# Altium schematic symbol library 28377一体板.SCHLIB: 54 symbols
Pins are listed as number, name and electrical type; pins without a type are passive.

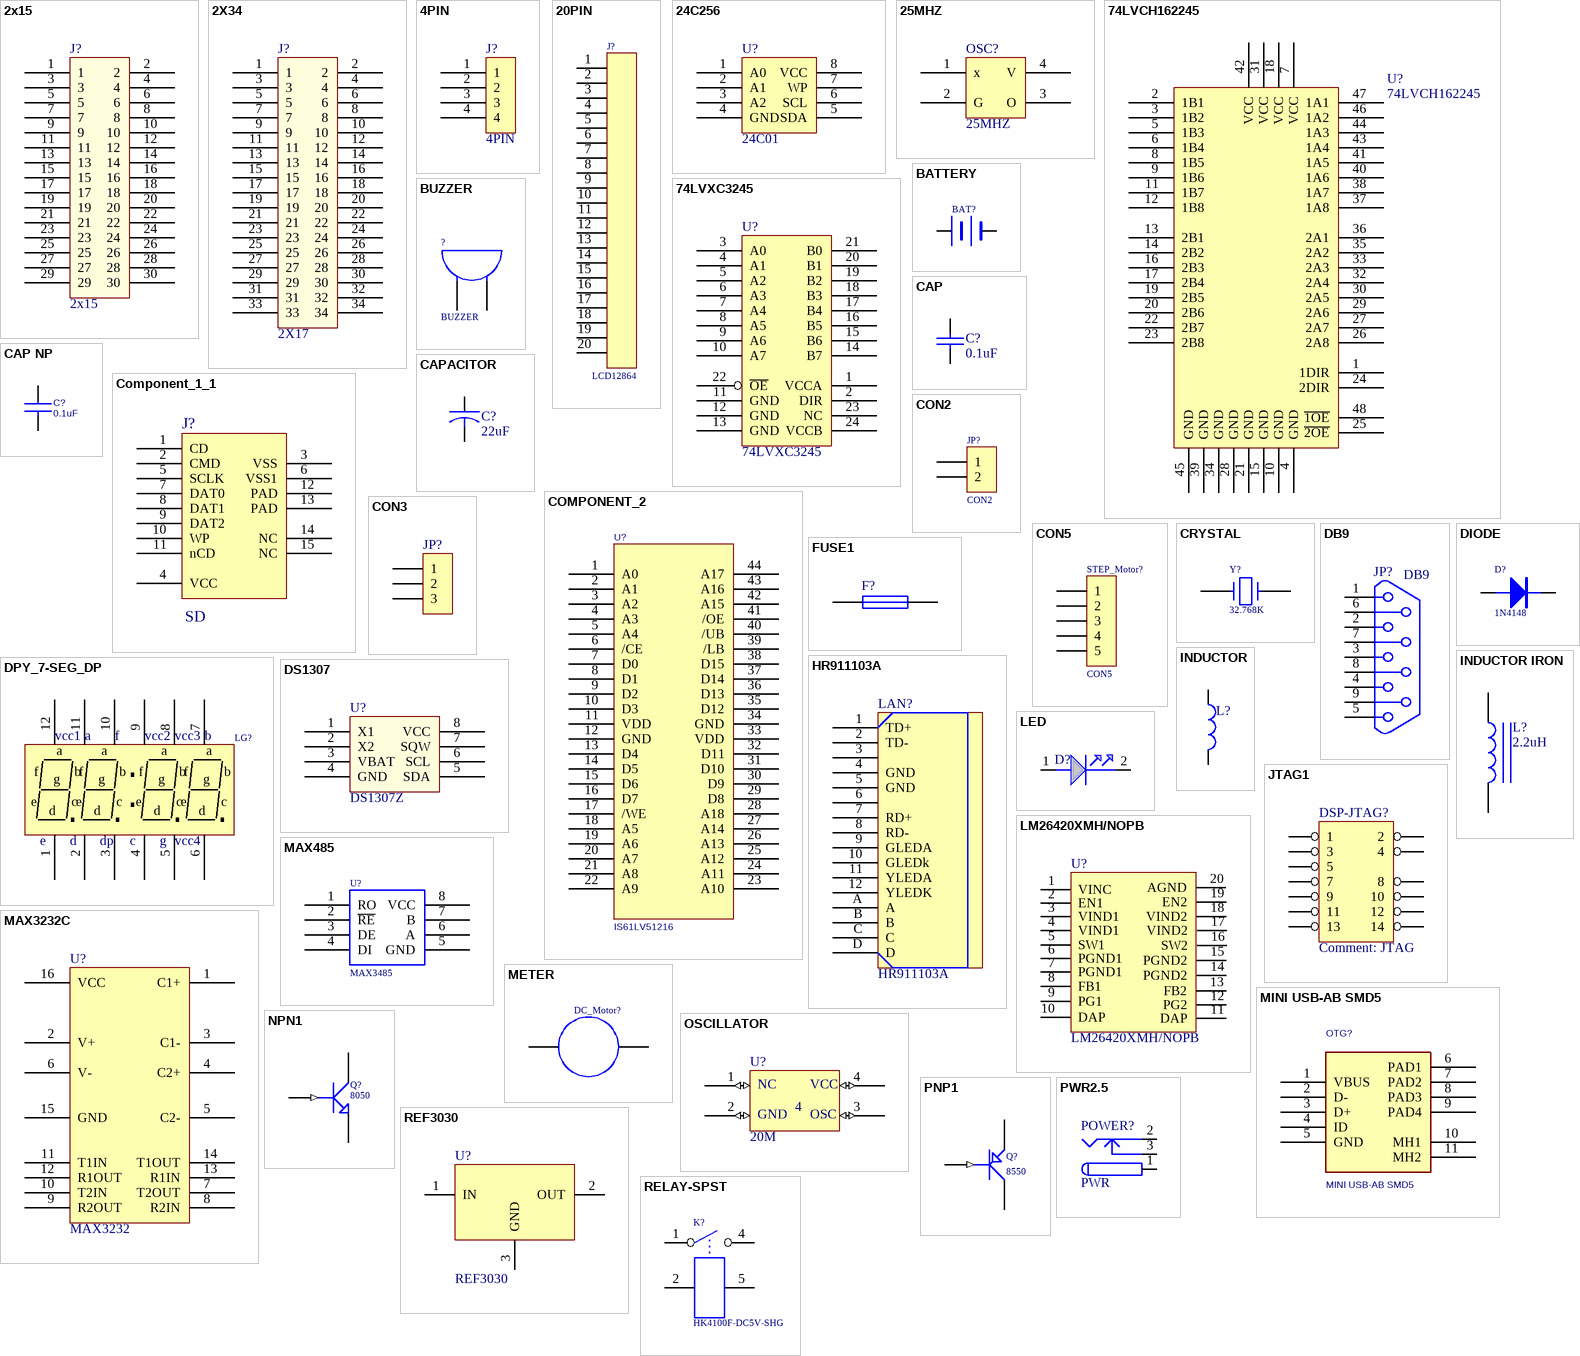
[diagram p0: symbols 2x15 to RELAY-SPST]

## 2x15
designator J?
footprint CON2.54_30P
pins: 1, 2, 3, 4, 5, 6, 7, 8, 9, 10, 11, 12, 13, 14, 15, 16, 17, 18, 19, 20, 21, 22, 23, 24, 25, 26, 27, 28, 29, 30

## 2X34
designator J?, comment 2X17
footprint CON2.54_34P
pins: 1, 2, 3, 4, 5, 6, 7, 8, 9, 10, 11, 12, 13, 14, 15, 16, 17, 18, 19, 20, 21, 22, 23, 24, 25, 26, 27, 28, 29, 30, 31, 32, 33, 34

## 4PIN
designator J?
footprint 2.54X4
pins: 1, 2, 3, 4

## 20PIN
designator J?, comment LCD12864
footprint IDC20
footprint LCD12864
pins: 1, 2, 3, 4, 5, 6, 7, 8, 9, 10, 11, 12, 13, 14, 15, 16, 17, 18, 19, 20

## 24C256
designator U?, comment 24C01
footprint SO-8
pins: 1 A0, 2 A1, 3 A2, 4 GND, 5 SDA, 6 SCL, 7 WP, 8 VCC

## 25MHZ
designator OSC?
footprint OSC
pins: 1 x, 2 G, 3 O, 4 V
2 alternate drawings of the same symbol

## 74LVCH162245
designator U?
footprint TSSOP48
pins: 1 1DIR, 2 1B1, 3 1B2, 4 GND, 5 1B3, 6 1B4, 7 VCC, 8 1B5, 9 1B6, 10 GND, 11 1B7, 12 1B8, 13 2B1, 14 2B2, 15 GND, 16 2B3, 17 2B4, 18 VCC, 19 2B5, 20 2B6, 21 GND, 22 2B7, 23 2B8, 24 2DIR, 25 ~{2OE}, 26 2A8, 27 2A7, 28 GND, 29 2A6, 30 2A5, 31 VCC, 32 2A4, 33 2A3, 34 GND, 35 2A2, 36 2A1, 37 1A8, 38 1A7, 39 GND, 40 1A6, 41 1A5, 42 VCC, 43 1A4, 44 1A3, 45 GND, 46 1A2, 47 1A1, 48 ~{1OE}
2 alternate drawings of the same symbol

## 74LVXC3245
designator U?
footprint TSSOP24
pins: 1 VCCA, 2 DIR, 3 A0, 4 A1, 5 A2, 6 A3, 7 A4, 8 A5, 9 A6, 10 A7, 11 GND, 12 GND, 13 GND, 14 B7, 15 B6, 16 B5, 17 B4, 18 B3, 19 B2, 20 B1, 21 B0, 22 ~{OE}, 23 NC, 24 VCCB

## BATTERY
designator BAT?  (value not drawn)
footprint LI1220
footprint LI1220_1
footprint BAT
pins: 1, 2
2 alternate drawings of the same symbol

## BUZZER
designator ?
footprint BUZZER
pins: 1 A, 2 B

## CAP
designator C?, comment 0.1uF
Capacitor
footprint 0805
footprint C0603
pins: 1, 2
2 alternate drawings of the same symbol

## CAP NP
designator C?, comment 0.1uF
Right: *; Bottom: *; classic: *
footprint C0603
pins: 1, 2
2 alternate drawings of the same symbol

## CAPACITOR
designator C?, comment 22uF
Capacitor
footprint 1812
pins: 1, 2

## Component_1_1
designator J?, comment SD
JP?; Text Field1: JP?
footprint SDCARD
footprint SDCARDMINI
pins: 1 CD, 2 CMD, 3 VSS, 4 VCC, 5 SCLK, 6 VSS1, 7 DAT0, 8 DAT1, 9 DAT2, 10 WP, 11 nCD, 12 PAD, 13 PAD, 14 NC, 15 NC
2 alternate drawings of the same symbol

## COMPONENT_2
designator U?, comment IS61LV51216
footprint IS61LV25616
footprint SOP44
pins: 1 A0, 2 A1, 3 A2, 4 A3, 5 A4, 6 /CE, 7 D0, 8 D1, 9 D2, 10 D3, 11 VDD, 12 GND, 13 D4, 14 D5, 15 D6, 16 D7, 17 /WE, 18 A5, 19 A6, 20 A7, 21 A8, 22 A9, 23 A10, 24 A11, 25 A12, 26 A13, 27 A14, 28 A18, 29 D8, 30 D9, 31 D10, 32 D11, 33 VDD, 34 GND, 35 D12, 36 D13, 37 D14, 38 D15, 39 /LB, 40 /UB, 41 /OE, 42 A15, 43 A16, 44 A17
2 alternate drawings of the same symbol

## CON2
designator JP?
Connector
footprint 2.54X2
pins: 1, 2

## CON3
designator JP?
Connector
footprint S_SIP3
pins: 1, 2, 3

## CON5
designator STEP_Motor?
Connector
footprint XH2.54X5
pins: 1, 2, 3, 4, 5

## CRYSTAL
designator Y?, comment 32.768K
Crystal
footprint XTAL3
pins: 1, 2

## DB9
designator JP?
footprint DB-9/M
footprint DB-9RA/M
pins: 1, 2, 3, 4, 5, 6, 7, 8, 9

## DIODE
designator D?, comment 1N4148
Diode
footprint 1N5819
pins: A, K

## DPY_7-SEG_DP
designator LG?
Seven-Segment Display, Right Hand Decimal
footprint SEG-7
pins: 1, 2, 3, 4, 5, 6, 7, 8, 9, 10, 11, 12
text: vcc1; a; f; vcc2; vcc3; b; g; e; c; d; dp; vcc4

## DS1307
designator U?, comment DS1307Z
footprint SO-8
pins: 1 X1, 2 X2, 3 VBAT, 4 GND, 5 SDA, 6 SCL, 7 SQW, 8 VCC

## FUSE1
designator F?
Fuse
footprint 1206
pins: 1, 2

## HR911103A
designator LAN?
footprint HR911103A
pins: 1 TD+, 2 TD-, 3, 4 GND, 5 GND, 6, 7 RD+, 8 RD-, 9 GLEDA, 10 GLEDk, 11 YLEDA, 12 YLEDK, A, B, C, D
2 alternate drawings of the same symbol

## INDUCTOR
designator L?
footprint R0603
pins: 1, 2
2 alternate drawings of the same symbol

## INDUCTOR IRON
designator L?, comment 2.2uH
footprint SPC1608
footprint SWAP
pins: 1, 2
2 alternate drawings of the same symbol

## JTAG1
designator DSP-JTAG?, comment JTAG
footprint DSP-JTAG
pins: 1, 2, 3, 4, 5, 7, 8, 9, 10, 11, 12, 13, 14
2 alternate drawings of the same symbol

## LED
designator D?  (value not drawn)
Text Field1: 40; Text Field2: 20
footprint 0805_2
pins: 1 ANODE, 2 CATHODE

## LM26420XMH/NOPB
designator U?
footprint TSSOP20
pins: 1 VINC, 2 EN1, 3 VIND1, 4 VIND1, 5 SW1, 6 PGND1, 7 PGND1, 8 FB1, 9 PG1, 10 DAP, 11 DAP, 12 PG2, 13 FB2, 14 PGND2, 15 PGND2, 16 SW2, 17 VIND2, 18 VIND2, 19 EN2, 20 AGND

## MAX485
designator U?, comment MAX3485
footprint SO-8
pins: 1 RO, 2 ~{RE}, 3 DE, 4 DI, 5 GND, 6 A, 7 B, 8 VCC

## MAX3232C
designator U?, comment MAX3232
footprint SO-16
pins: 1 C1+, 2 V+, 3 C1-, 4 C2+, 5 C2-, 6 V-, 7 T2OUT, 8 R2IN, 9 R2OUT, 10 T2IN, 11 T1IN, 12 R1OUT, 13 R1IN, 14 T1OUT, 15 GND, 16 VCC

## METER
designator DC_Motor?  (value not drawn)
footprint XH2.54X2
pins: 1, 2

## MINI USB-AB SMD5
designator OTG?
Remark: Mini USB 座
footprint USB-MINI
pins: 1 VBUS (power), 2 D-, 3 D+, 4 ID, 5 GND (power), 6 PAD1, 7 PAD2, 8 PAD3, 9 PAD4, 10 MH1, 11 MH2
2 alternate drawings of the same symbol

## NPN1
designator Q?, comment 8050
NPN Transistor
footprint SOT-23
pins: 1 B (in), 2 E, 3 C

## OSCILLATOR
designator U?, comment 20M
footprint OSC
footprint XTAL-7050
footprint OSC
footprint XTAL-3225
pins: 1 (io), 2 (io), 3 (io), 4 (io)
2 alternate drawings of the same symbol
text: NC; VCC; GND; OSC

## PNP1
designator Q?, comment 8550
PNP Transistor
footprint SOT-23
pins: 1 B (in), 2 E, 3 C

## PWR2.5
designator POWER?, comment PWR
Low Voltage Power Supply Connector; Published: 17-Dec-2003; DatasheetDocument: 09-May-2002; Publisher: Altium Limited; ComponentLink1Description: Manufacturer Link; ComponentLink1URL: http://domino.kycon.com/internet/Products.html
footprint KLD-0202 (DC Power Jack, 2.5mm, KLD Series, PCB Mount)
signal-integrity model Connector
pins: 1 (power), 1A (power), 1B (power), 2 (power), 2A (power), 2B (power), 3 (power), 3A (power), 3B (power)

## REF3030
designator U?
footprint SOT23
pins: 1 IN, 2 OUT, 3 GND
2 alternate drawings of the same symbol

## RELAY-SPST
designator K?, comment HK4100F-DC5V-SHG
footprint HK4100F-DC5V-SHG
pins: 1, 2, 4, 5

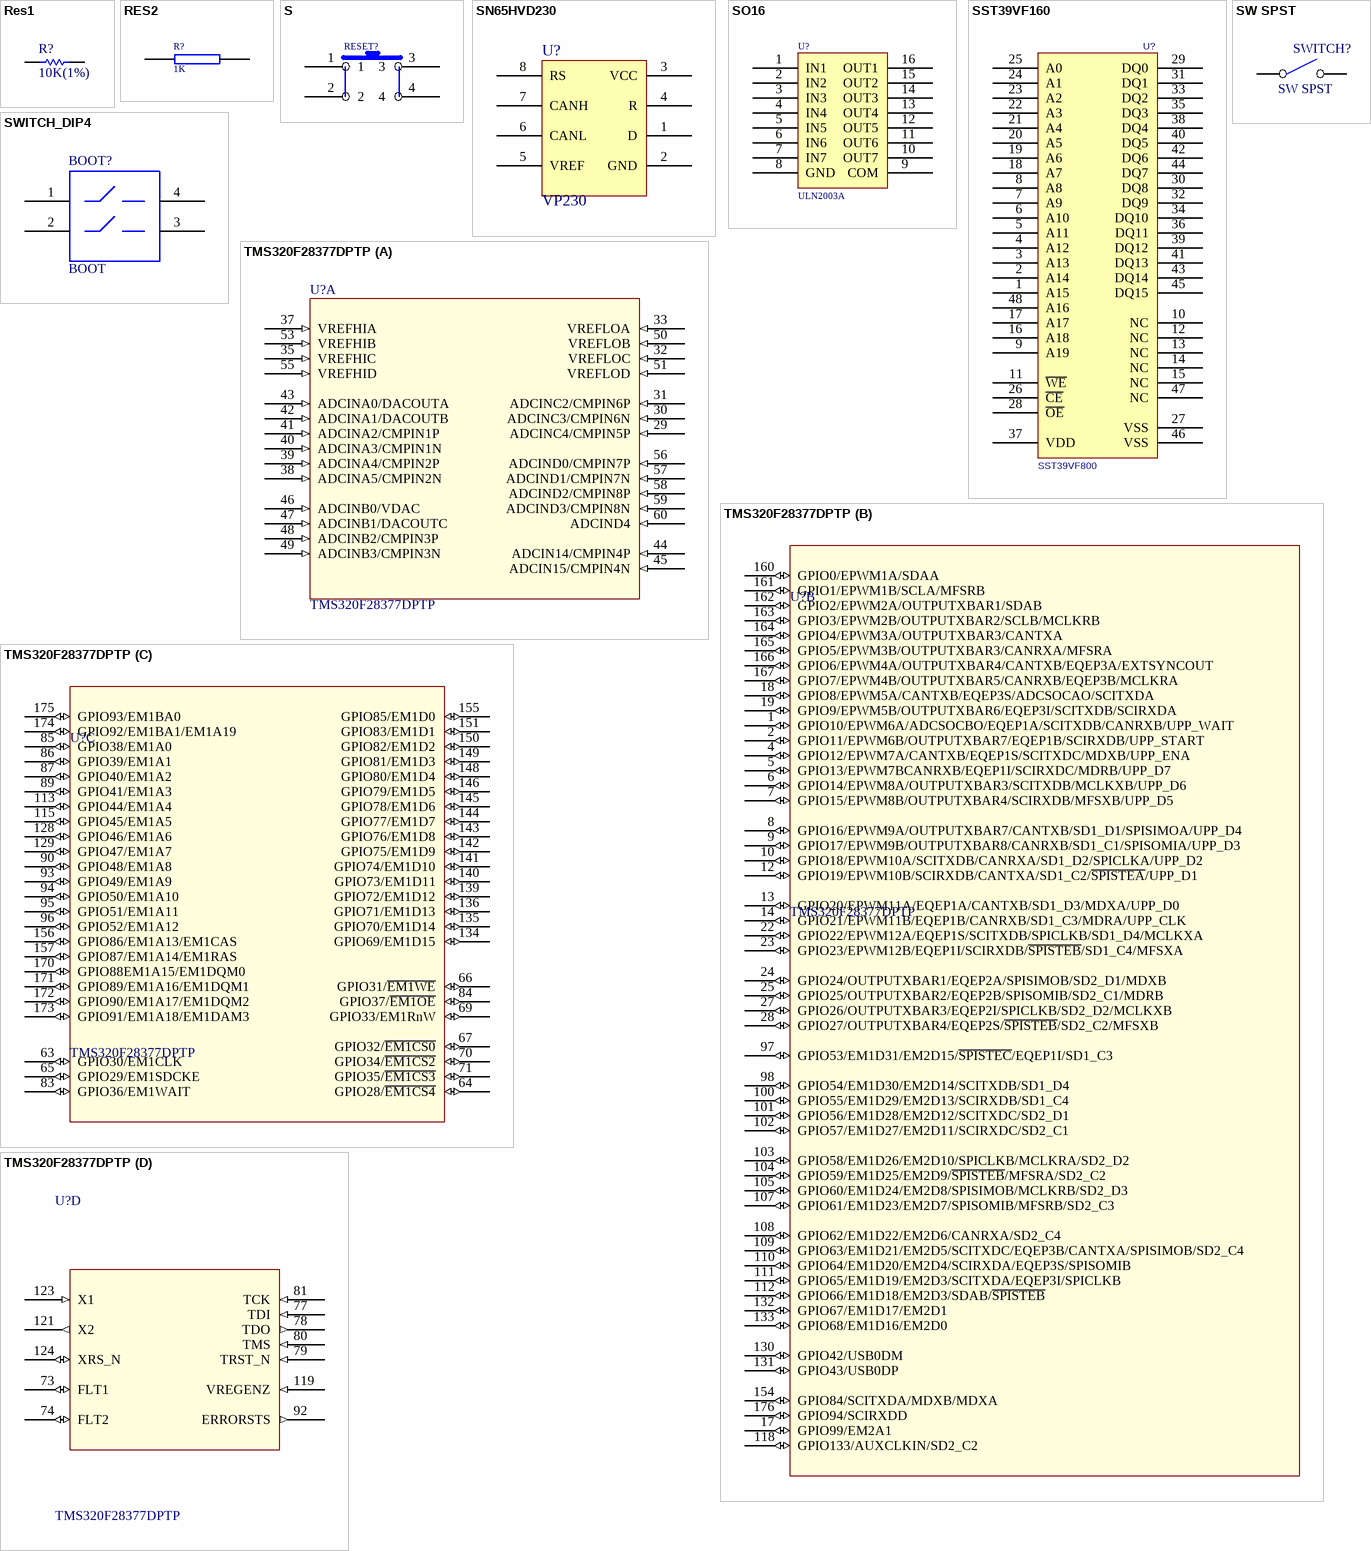
[diagram p1: symbols Res1 to TMS320F28377DPTP]

## Res1
designator R?, comment 10K(1%)
Resistor; Value: 1K; Published: 8-Jun-2000; LatestRevisionDate: 17-Jul-2002; LatestRevisionNote: Re-released for DXP Platform.; PackageReference: AXIAL-0.3; Publisher: Altium Limited; PackageDescription: Axial Device, Thru-Hole; 2 Leads; 0.3 in Pin Spacing
footprint AXIAL-0.3
footprint R0603
pins: 1, 2
2 alternate drawings of the same symbol

## RES2
designator R?, comment 1K
footprint R0603
pins: 1, 2

## S
designator RESET?
footprint KEY
footprint BUTTON_4X4
pins: 1, 2, 3, 4

## SN65HVD230
designator U?, comment VP230
footprint SO-8
pins: 1 D, 2 GND, 3 VCC, 4 R, 5 VREF, 6 CANL, 7 CANH, 8 RS
2 alternate drawings of the same symbol

## SO16
designator U?, comment ULN2003A
footprint SO-16
pins: 1 IN1, 2 IN2, 3 IN3, 4 IN4, 5 IN5, 6 IN6, 7 IN7, 8 GND, 9 COM, 10 OUT7, 11 OUT6, 12 OUT5, 13 OUT4, 14 OUT3, 15 OUT2, 16 OUT1

## SST39VF160
designator U?, comment SST39VF800
footprint SST39VF1601
footprint SST39VF800
pins: 1 A15, 2 A14, 3 A13, 4 A12, 5 A11, 6 A10, 7 A9, 8 A8, 9 A19, 10 NC, 11 ~{WE}, 12 NC, 13 NC, 14 NC, 15 NC, 16 A18, 17 A17, 18 A7, 19 A6, 20 A5, 21 A4, 22 A3, 23 A2, 24 A1, 25 A0, 26 ~{CE}, 27 VSS, 28 ~{OE}, 29 DQ0, 30 DQ8, 31 DQ1, 32 DQ9, 33 DQ2, 34 DQ10, 35 DQ3, 36 DQ11, 37 VDD, 38 DQ4, 39 DQ12, 40 DQ5, 41 DQ13, 42 DQ6, 43 DQ14, 44 DQ7, 45 DQ15, 46 VSS, 47 NC, 48 A16
2 alternate drawings of the same symbol

## SW SPST
designator SWITCH?
footprint SWITCH_5
pins: 1 COMMON, 2 NO

## SWITCH_DIP4
designator BOOT?, comment BOOT
footprint SWITCH_SIP2
pins: 1, 2, 3, 4

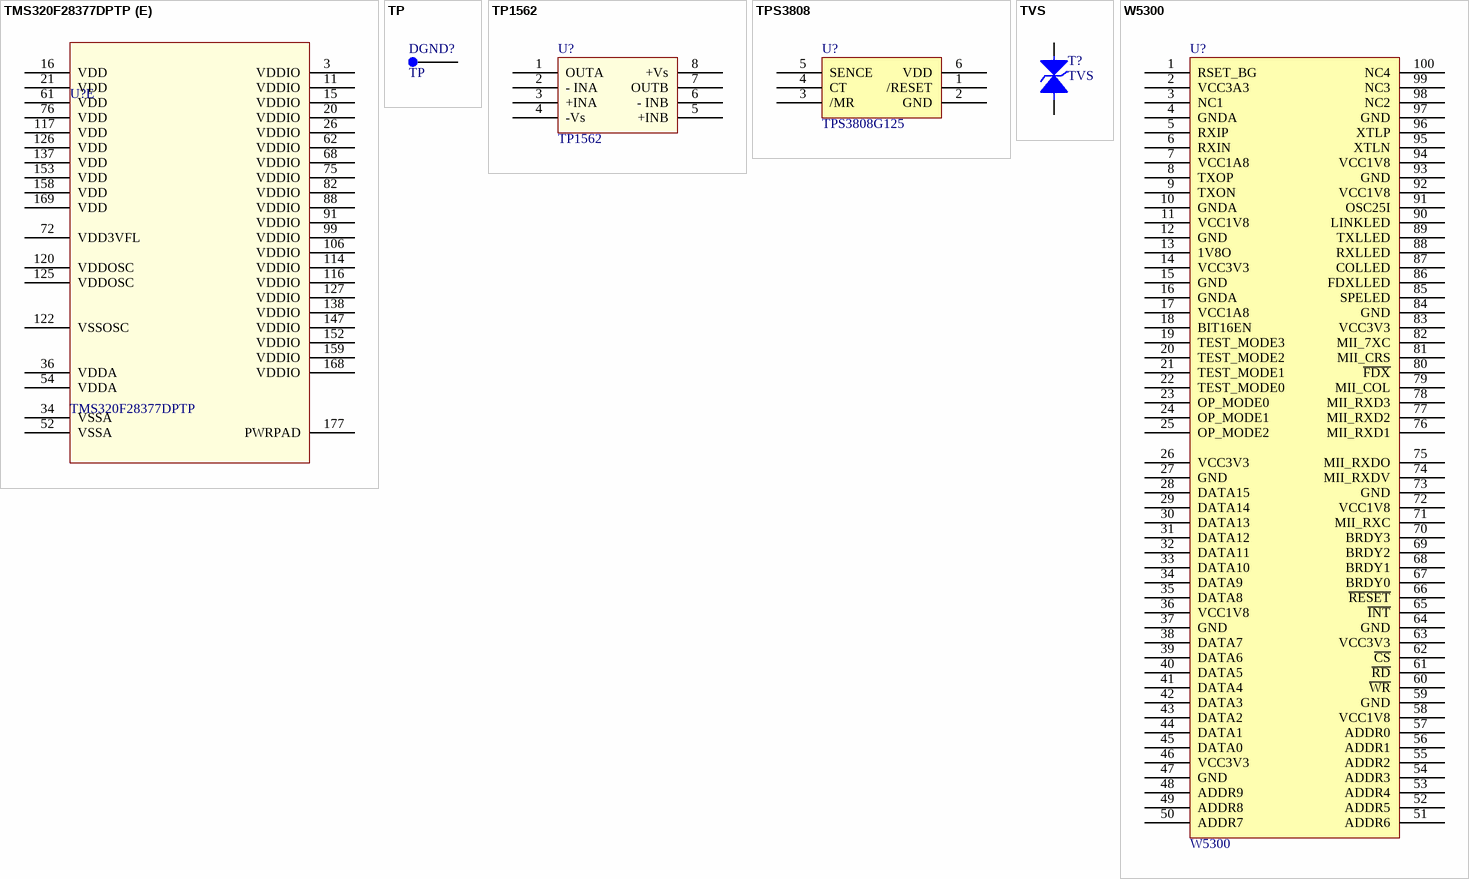
[diagram p2: symbols TMS320F28377DPTP to W5300]

## TMS320F28377DPTP
designator U?
Imported; Manufacturer: Texas Instruments; CompType: IC; PIN_COUNT: 177; PartNumber: TMS320F28377DPTP; PackageReference: PTP0176F; MountType: SMT; RoHS: Y; RefDes: RefDes; Type: DEV; Value: Value
footprint PTP0176F_N
part A pins: 29 ADCINC4/CMPIN5P (in), 30 ADCINC3/CMPIN6N (in), 31 ADCINC2/CMPIN6P (in), 32 VREFLOC (in), 33 VREFLOA (in), 35 VREFHIC (in), 37 VREFHIA (in), 38 ADCINA5/CMPIN2N (in), 39 ADCINA4/CMPIN2P (in), 40 ADCINA3/CMPIN1N (in), 41 ADCINA2/CMPIN1P (in), 42 ADCINA1/DACOUTB (in), 43 ADCINA0/DACOUTA (in), 44 ADCIN14/CMPIN4P (in), 45 ADCIN15/CMPIN4N (in), 46 ADCINB0/VDAC (in), 47 ADCINB1/DACOUTC (in), 48 ADCINB2/CMPIN3P (in), 49 ADCINB3/CMPIN3N (in), 50 VREFLOB (in), 51 VREFLOD (in), 53 VREFHIB (in), 55 VREFHID (in), 56 ADCIND0/CMPIN7P (in), 57 ADCIND1/CMPIN7N (in), 58 ADCIND2/CMPIN8P (in), 59 ADCIND3/CMPIN8N (in), 60 ADCIND4 (in)
part B pins: 1 GPIO10/EPWM6A/ADCSOCBO/EQEP1A/SCITXDB/CANRXB/UPP_WAIT (io), 2 GPIO11/EPWM6B/OUTPUTXBAR7/EQEP1B/SCIRXDB/UPP_START (io), 4 GPIO12/EPWM7A/CANTXB/EQEP1S/SCITXDC/MDXB/UPP_ENA (io), 5 GPIO13/EPWM7BCANRXB/EQEP1I/SCIRXDC/MDRB/UPP_D7 (io), 6 GPIO14/EPWM8A/OUTPUTXBAR3/SCITXDB/MCLKXB/UPP_D6 (io), 7 GPIO15/EPWM8B/OUTPUTXBAR4/SCIRXDB/MFSXB/UPP_D5 (io), 8 GPIO16/EPWM9A/OUTPUTXBAR7/CANTXB/SD1_D1/SPISIMOA/UPP_D4 (io), 9 GPIO17/EPWM9B/OUTPUTXBAR8/CANRXB/SD1_C1/SPISOMIA/UPP_D3 (io), 10 GPIO18/EPWM10A/SCITXDB/CANRXA/SD1_D2/SPICLKA/UPP_D2 (io), 12 GPIO19/EPWM10B/SCIRXDB/CANTXA/SD1_C2/~{SPISTEA}/UPP_D1 (io), 13 GPIO20/EPWM11A/EQEP1A/CANTXB/SD1_D3/MDXA/UPP_D0 (io), 14 GPIO21/EPWM11B/EQEP1B/CANRXB/SD1_C3/MDRA/UPP_CLK (io), 17 GPIO99/EM2A1 (io), 18 GPIO8/EPWM5A/CANTXB/EQEP3S/ADCSOCAO/SCITXDA (io), 19 GPIO9/EPWM5B/OUTPUTXBAR6/EQEP3I/SCITXDB/SCIRXDA (io), 22 GPIO22/EPWM12A/EQEP1S/SCITXDB/SPICLKB/SD1_D4/MCLKXA (io), 23 GPIO23/EPWM12B/EQEP1I/SCIRXDB/~{SPISTEB}/SD1_C4/MFSXA (io), 24 GPIO24/OUTPUTXBAR1/EQEP2A/SPISIMOB/SD2_D1/MDXB (io), 25 GPIO25/OUTPUTXBAR2/EQEP2B/SPISOMIB/SD2_C1/MDRB (io), 27 GPIO26/OUTPUTXBAR3/EQEP2I/SPICLKB/SD2_D2/MCLKXB (io), 28 GPIO27/OUTPUTXBAR4/EQEP2S/~{SPISTEB}/SD2_C2/MFSXB (io), 97 GPIO53/EM1D31/EM2D15/~{SPISTEC}/EQEP1I/SD1_C3 (io), 98 GPIO54/EM1D30/EM2D14/SCITXDB/SD1_D4 (io), 100 GPIO55/EM1D29/EM2D13/SCIRXDB/SD1_C4 (io), 101 GPIO56/EM1D28/EM2D12/SCITXDC/SD2_D1 (io), 102 GPIO57/EM1D27/EM2D11/SCIRXDC/SD2_C1 (io), 103 GPIO58/EM1D26/EM2D10/SPICLKB/MCLKRA/SD2_D2 (io), 104 GPIO59/EM1D25/EM2D9/~{SPISTEB}/MFSRA/SD2_C2 (io), 105 GPIO60/EM1D24/EM2D8/SPISIMOB/MCLKRB/SD2_D3 (io), 107 GPIO61/EM1D23/EM2D7/SPISOMIB/MFSRB/SD2_C3 (io), 108 GPIO62/EM1D22/EM2D6/CANRXA/SD2_C4 (io), 109 GPIO63/EM1D21/EM2D5/SCITXDC/EQEP3B/CANTXA/SPISIMOB/SD2_C4 (io), 110 GPIO64/EM1D20/EM2D4/SCIRXDA/EQEP3S/SPISOMIB (io), 111 GPIO65/EM1D19/EM2D3/SCITXDA/EQEP3I/SPICLKB (io), 112 GPIO66/EM1D18/EM2D3/SDAB/~{SPISTEB} (io), 118 GPIO133/AUXCLKIN/SD2_C2 (io), 130 GPIO42/USB0DM (io), 131 GPIO43/USB0DP (io), 132 GPIO67/EM1D17/EM2D1 (io), 133 GPIO68/EM1D16/EM2D0 (io), 154 GPIO84/SCITXDA/MDXB/MDXA (io), 160 GPIO0/EPWM1A/SDAA (io), 161 GPIO1/EPWM1B/SCLA/MFSRB (io), 162 GPIO2/EPWM2A/OUTPUTXBAR1/SDAB (io), 163 GPIO3/EPWM2B/OUTPUTXBAR2/SCLB/MCLKRB (io), 164 GPIO4/EPWM3A/OUTPUTXBAR3/CANTXA (io), 165 GPIO5/EPWM3B/OUTPUTXBAR3/CANRXA/MFSRA (io), 166 GPIO6/EPWM4A/OUTPUTXBAR4/CANTXB/EQEP3A/EXTSYNCOUT (io), 167 GPIO7/EPWM4B/OUTPUTXBAR5/CANRXB/EQEP3B/MCLKRA (io), 176 GPIO94/SCIRXDD (io)
part C pins: 63 GPIO30/EM1CLK (io), 64 GPIO28/~{EM1CS4} (io), 65 GPIO29/EM1SDCKE (io), 66 GPIO31/~{EM1WE} (io), 67 GPIO32/~{EM1CS0} (io), 69 GPIO33/EM1RnW (io), 70 GPIO34/~{EM1CS2} (io), 71 GPIO35/~{EM1CS3} (io), 83 GPIO36/EM1WAIT (io), 84 GPIO37/~{EM1OE} (io), 85 GPIO38/EM1A0 (io), 86 GPIO39/EM1A1 (io), 87 GPIO40/EM1A2 (io), 89 GPIO41/EM1A3 (io), 90 GPIO48/EM1A8 (io), 93 GPIO49/EM1A9 (io), 94 GPIO50/EM1A10 (io), 95 GPIO51/EM1A11 (io), 96 GPIO52/EM1A12 (io), 113 GPIO44/EM1A4 (io), 115 GPIO45/EM1A5 (io), 128 GPIO46/EM1A6 (io), 129 GPIO47/EM1A7 (io), 134 GPIO69/EM1D15 (io), 135 GPIO70/EM1D14 (io), 136 GPIO71/EM1D13 (io), 139 GPIO72/EM1D12 (io), 140 GPIO73/EM1D11 (io), 141 GPIO74/EM1D10 (io), 142 GPIO75/EM1D9 (io), 143 GPIO76/EM1D8 (io), 144 GPIO77/EM1D7 (io), 145 GPIO78/EM1D6 (io), 146 GPIO79/EM1D5 (io), 148 GPIO80/EM1D4 (io), 149 GPIO81/EM1D3 (io), 150 GPIO82/EM1D2 (io), 151 GPIO83/EM1D1 (io), 155 GPIO85/EM1D0 (io), 156 GPIO86/EM1A13/EM1CAS (io), 157 GPIO87/EM1A14/EM1RAS (io), 170 GPIO88EM1A15/EM1DQM0 (io), 171 GPIO89/EM1A16/EM1DQM1 (io), 172 GPIO90/EM1A17/EM1DQM2 (io), 173 GPIO91/EM1A18/EM1DAM3 (io), 174 GPIO92/EM1BA1/EM1A19 (io), 175 GPIO93/EM1BA0 (io)
part D pins: 73 FLT1 (io), 74 FLT2 (io), 77 TDI (in), 78 TDO (out), 79 TRST_N (in), 80 TMS (in), 81 TCK (in), 92 ERRORSTS (out), 119 VREGENZ (in), 121 X2 (out), 123 X1 (in), 124 XRS_N (io)
part E pins: 3 VDDIO (power), 11 VDDIO (power), 15 VDDIO (power), 16 VDD (power), 20 VDDIO (power), 21 VDD (power), 26 VDDIO (power), 34 VSSA (power), 36 VDDA (power), 52 VSSA (power), 54 VDDA (power), 61 VDD (power), 62 VDDIO (power), 68 VDDIO (power), 72 VDD3VFL (power), 75 VDDIO (power), 76 VDD (power), 82 VDDIO (power), 88 VDDIO (power), 91 VDDIO (power), 99 VDDIO (power), 106 VDDIO (power), 114 VDDIO (power), 116 VDDIO (power), 117 VDD (power), 120 VDDOSC (power), 122 VSSOSC (power), 125 VDDOSC (power), 126 VDD (power), 127 VDDIO (power), 137 VDD (power), 138 VDDIO (power), 147 VDDIO (power), 152 VDDIO (power), 153 VDD (power), 158 VDD (power), 159 VDDIO (power), 168 VDDIO (power), 169 VDD (power), 177 PWRPAD (power)
2 alternate drawings of the same symbol

## TP
designator DGND?
footprint TP
footprint TP
pins: 1

## TP1562
designator U?
footprint SO-8
pins: 1 OUTA, 2 - INA, 3 +INA, 4 -Vs, 5 +INB, 6 - INB, 7 OUTB, 8 +Vs

## TPS3808
designator U?, comment TPS3808G125
footprint SO-G6
pins: 1 /RESET, 2 GND, 3 /MR, 4 CT, 5 SENCE, 6 VDD
2 alternate drawings of the same symbol

## TVS
designator T?
footprint TVS
pins: 1 A, 2 K

## W5300
designator U?
footprint LQFP100
pins: 1 RSET_BG, 2 VCC3A3, 3 NC1, 4 GNDA, 5 RXIP, 6 RXIN, 7 VCC1A8, 8 TXOP, 9 TXON, 10 GNDA, 11 VCC1V8, 12 GND, 13 1V8O, 14 VCC3V3, 15 GND, 16 GNDA, 17 VCC1A8, 18 BIT16EN, 19 TEST_MODE3, 20 TEST_MODE2, 21 TEST_MODE1, 22 TEST_MODE0, 23 OP_MODE0, 24 OP_MODE1, 25 OP_MODE2, 26 VCC3V3, 27 GND, 28 DATA15, 29 DATA14, 30 DATA13, 31 DATA12, 32 DATA11, 33 DATA10, 34 DATA9, 35 DATA8, 36 VCC1V8, 37 GND, 38 DATA7, 39 DATA6, 40 DATA5, 41 DATA4, 42 DATA3, 43 DATA2, 44 DATA1, 45 DATA0, 46 VCC3V3, 47 GND, 48 ADDR9, 49 ADDR8, 50 ADDR7, 51 ADDR6, 52 ADDR5, 53 ADDR4, 54 ADDR3, 55 ADDR2, 56 ADDR1, 57 ADDR0, 58 VCC1V8, 59 GND, 60 ~{WR}, 61 ~{RD}, 62 ~{CS}, 63 VCC3V3, 64 GND, 65 ~{INT}, 66 ~{RESET}, 67 BRDY0, 68 BRDY1, 69 BRDY2, 70 BRDY3, 71 MII_RXC, 72 VCC1V8, 73 GND, 74 MII_RXDV, 75 MII_RXDO, 76 MII_RXD1, 77 MII_RXD2, 78 MII_RXD3, 79 MII_COL, 80 ~{FDX}, 81 MII_CRS, 82 MII_7XC, 83 VCC3V3, 84 GND, 85 SPELED, 86 FDXLLED, 87 COLLED, 88 RXLLED, 89 TXLLED, 90 LINKLED, 91 OSC25I, 92 VCC1V8, 93 GND, 94 VCC1V8, 95 XTLN, 96 XTLP, 97 GND, 98 NC2, 99 NC3, 100 NC4
2 alternate drawings of the same symbol